# Altium footprint library Lib1.PcbLib: 53 footprints (part 2 of 4)
Each footprint in its own frame and in the unit in brackets; x right, y up, seen from the top. Pads: shape width x height; smd on the part's side, far side on the other; paste and mask are expansions set on the pad; w line width, h text height; cw(c..) or ccw(c..) is an arc to the next point about the centre after c.
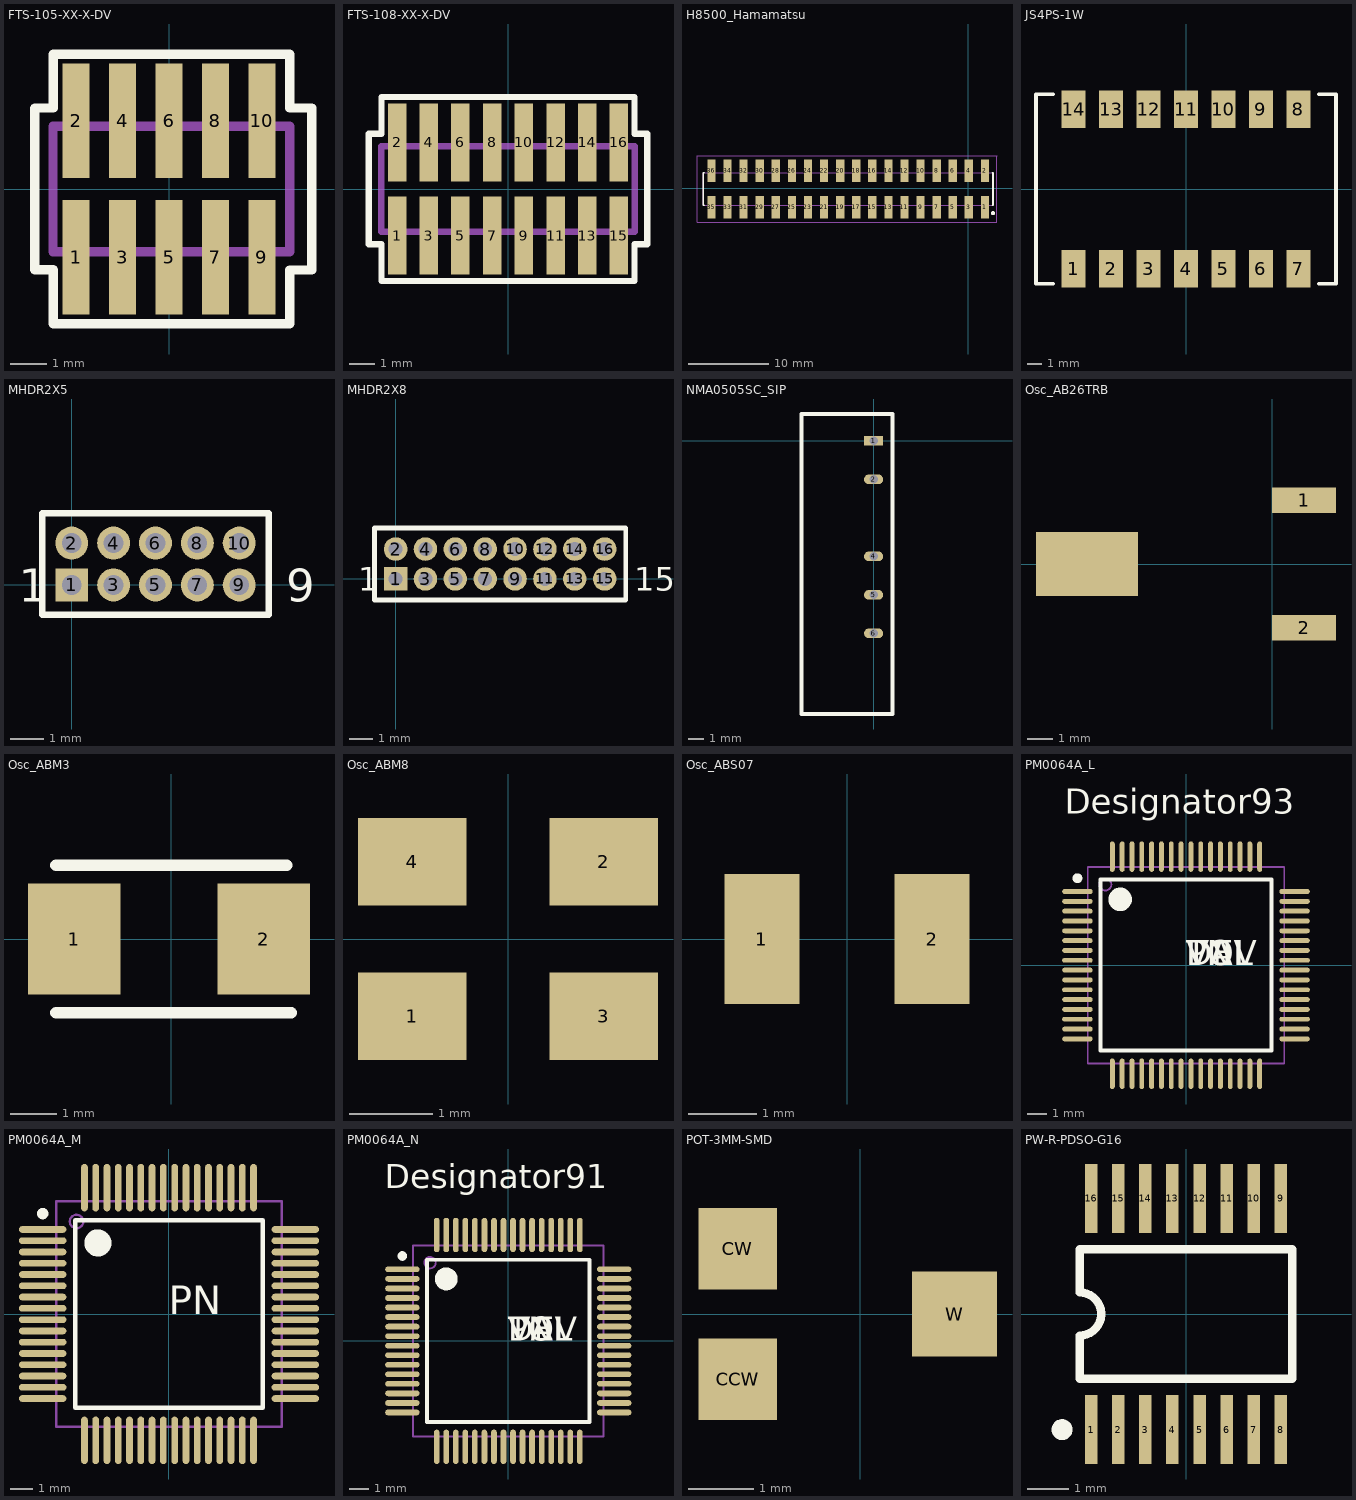
[diagram p1: the footprints below, top view; thin cyan lines are the x and y axes]

## FTS-105-XX-X-DV [mm]
pads (10):
  rect 0.74x3.125 smd mask+0.05: 1(-2.54,-1.867) 2(-2.54,1.867) 3(-1.27,-1.867) 4(-1.27,1.867) 5(0,-1.867) 6(0,1.867) 7(1.27,-1.867) 8(1.27,1.867) 9(2.54,-1.867) 10(2.54,1.867)
Top Overlay:
  lines w0.254: -3.675,-2.21 -3.164,-2.21 -3.164,-3.684 3.305,-3.684 3.305,-2.215 3.905,-2.215 3.905,2.215 3.305,2.215 3.305,3.684 -3.164,3.684 -3.164,2.215 -3.675,2.21 -3.675,-2.21
Mechanical 1:
  lines w0.254: -2.54,-2.92 -2.54,-1.715 ; -2.54,1.715 -2.54,2.92 ; -1.27,-2.92 -1.27,-1.715 ; -1.27,1.715 -1.27,2.92 ; 0,-2.92 0,-1.715 ; 0,1.715 0,2.92 ; 1.27,-2.92 1.27,-1.715 ; 1.27,1.715 1.27,2.92 ; 2.54,-2.92 2.54,-1.715 ; 2.54,1.715 2.54,2.92 ; -3.175,-1.715 3.305,-1.715 3.305,1.715 -3.175,1.715 -3.175,-1.715
  text "J1" at -0.595,-4.8 h0.76

## FTS-108-XX-X-DV [mm]
pads (16):
  rect 0.74x3.125 smd mask+0.05: 1(-4.445,-1.867) 2(-4.445,1.867) 3(-3.175,-1.867) 4(-3.175,1.867) 5(-1.905,-1.867) 6(-1.905,1.867) 7(-0.635,-1.867) 8(-0.635,1.867) 9(0.635,-1.867) 10(0.635,1.867) 11(1.905,-1.867) 12(1.905,1.867) 13(3.175,-1.867) 14(3.175,1.867) 15(4.445,-1.867) 16(4.445,1.867)
Top Overlay:
  lines w0.254: -5.58,-2.21 -5.58,2.21 -5.069,2.215 -5.069,3.684 5.069,3.684 5.069,2.215 5.58,2.215 5.58,-2.215 5.069,-2.215 5.069,-3.684 -5.069,-3.684 -5.069,-2.21 -5.58,-2.21
Mechanical 1:
  lines w0.254: -4.445,-2.92 -4.445,-1.715 ; -4.445,1.715 -4.445,2.92 ; -3.175,-2.92 -3.175,-1.715 ; -3.175,1.715 -3.175,2.92 ; -1.905,-2.92 -1.905,-1.715 ; -1.905,1.715 -1.905,2.92 ; -0.635,-2.92 -0.635,-1.715 ; -0.635,1.715 -0.635,2.92 ; 0.635,-2.92 0.635,-1.715 ; 0.635,1.715 0.635,2.92 ; 1.905,-2.92 1.905,-1.715 ; 1.905,1.715 1.905,2.92 ; 3.175,-2.92 3.175,-1.715 ; 3.175,1.715 3.175,2.92 ; 4.445,-2.92 4.445,-1.715 ; 4.445,1.715 4.445,2.92 ; -5.08,-1.715 -5.08,1.715 5.08,1.715 5.08,-1.715 -5.08,-1.715
  text "J1" at 0.232,-5.055 h0.76

## H8500_Hamamatsu [mm]
pads (36):
  rect 1.02x2.77 smd: 1(2.097,-2.384) 2(2.097,2.166) 3(0.097,-2.384) 4(0.097,2.166) 5(-1.903,-2.384) 6(-1.903,2.166) 7(-3.903,-2.384) 8(-3.903,2.166) 9(-5.903,-2.384) 10(-5.903,2.166) 11(-7.903,-2.384) 12(-7.903,2.166) 13(-9.903,-2.384) 14(-9.903,2.166) 15(-11.903,-2.384) 16(-11.903,2.166) 17(-13.903,-2.384) 18(-13.903,2.166) 19(-15.903,-2.384) 20(-15.903,2.166) 21(-17.903,-2.384) 22(-17.903,2.166) 23(-19.903,-2.384) 24(-19.903,2.166) 25(-21.903,-2.384) 26(-21.903,2.166) 27(-23.903,-2.384) 28(-23.903,2.166) 29(-25.903,-2.384) 30(-25.903,2.166) 31(-27.903,-2.384) 32(-27.903,2.166) 33(-29.903,-2.384) 34(-29.903,2.166) 35(-31.903,-2.384) 36(-31.903,2.166)
Top Overlay:
  circle w0.25: c3.097,-3.109 r0.125
  lines w0.2: -32.815,-2.109 -32.905,-2.109 -32.905,-1.109 -32.905,0.891 -32.905,1.891 -32.815,1.891 ; 3.007,-2.109 3.097,-2.109 3.097,1.891 3.007,1.891
Mechanical 13:
  lines w0.1: -32.938,-2.109 3.097,-2.109 3.097,1.923 -32.938,1.923 -32.938,-2.109
Mechanical 15:
  lines w0.1: -33.7,-4.269 3.597,-4.269 3.597,4.051 -33.7,4.051 -33.7,-4.269
3D body: height 3.56, standoff 0, extent -32.938,-2.141 3.097,1.923

## JS4PS-1W [mm]
pads (14):
  rect 1.65x2.54 smd: 1(-7.62,-5.4) 2(-5.08,-5.4) 3(-2.54,-5.4) 4(0,-5.4) 5(2.54,-5.4) 6(5.08,-5.4) 7(7.62,-5.4) 8(7.62,5.4) 9(5.08,5.4) 10(2.54,5.4) 11(0,5.4) 12(-2.54,5.4) 13(-5.08,5.4) 14(-7.62,5.4)
Top Overlay:
  lines w0.254: -9,-6.415 -10.16,-6.415 -10.16,6.415 -9,6.415 ; 9,-6.415 10.16,-6.415 10.16,6.416 9,6.416

## MHDR2X5 [mm] "Connector; Header; 5x2 Position"
pads (10):
  rect 1x1 hole 0.6: 1(0,0)
  round 1 hole 0.6: 2(0,1.27) 3(1.27,0) 4(1.27,1.27) 5(2.54,0) 6(2.54,1.27) 7(3.81,0) 8(3.81,1.27) 9(5.08,0) 10(5.08,1.27)
Top Overlay:
  lines w0.2: -0.9,-0.9 5.98,-0.9 5.98,2.17 -0.9,2.17 -0.9,-0.9
  text "1" at -1.6,-0.508 h1
  text "9" at 6.5,-0.508 h1

## MHDR2X8 [mm] "Connector; Header; 8x2 Position"
pads (16):
  rect 1x1 hole 0.6: 1(0,0)
  round 1 hole 0.6: 2(0,1.27) 3(1.27,0) 4(1.27,1.27) 5(2.54,0) 6(2.54,1.27) 7(3.81,0) 8(3.81,1.27) 9(5.08,0) 10(5.08,1.27) 11(6.35,0) 12(6.35,1.27) 13(7.62,0) 14(7.62,1.27) 15(8.89,0) 16(8.89,1.27)
Top Overlay:
  lines w0.2: -0.9,-0.9 9.79,-0.9 9.79,2.17 -0.9,2.17 -0.9,-0.9
  text "1" at -1.6,-0.508 h1
  text "15" at 10.16,-0.508 h1

## NMA0505SC_SIP [mil]
pads (5):
  rect 50x25 hole 22: 1(0,0)
  oval 50x25 hole 22: 2(0,-100) 4(0,-300) 5(0,-400) 6(0,-500)
Top Overlay:
  lines w10: -187.5,-709.65 -187.5,69.88 49.45,69.88 49.45,-709.65 -187.5,-709.65

## Osc_AB26TRB [mm]
pads (3):
  rect 2.5x1 smd: 1(1.25,2.5) 2(1.25,-2.5)
  rect 4x2.5 smd: ""(-7.25,0)

## Osc_ABM3 [mm]
pads (2):
  rect 2x2.4 smd: 1(-2.1,0) 2(2,0)
Top Overlay:
  lines w0.254: -2.5,-1.6 2.6,-1.6 ; -2.5,1.6 2.5,1.6

## Osc_ABM8 [mm]
pads (4):
  rect 1.3x1.05 smd: 1(-1.15,-0.925) 2(1.15,0.925) 3(1.15,-0.925) 4(-1.15,0.925)

## Osc_ABS07 [mm]
pads (2):
  rect 1.1x1.9 smd: 1(-1.25,0) 2(1.25,0)

## PM0064A_L [mm]
pads (64):
  oval 1.55x0.25 smd paste-0.102 mask+0.051: 1(-5.525,3.75) 2(-5.525,3.25) 3(-5.525,2.75) 4(-5.525,2.25) 5(-5.525,1.75) 6(-5.525,1.25) 7(-5.525,0.75) 8(-5.525,0.25) 9(-5.525,-0.25) 10(-5.525,-0.75) 11(-5.525,-1.25) 12(-5.525,-1.75) 13(-5.525,-2.25) 14(-5.525,-2.75) 15(-5.525,-3.25) 16(-5.525,-3.75) 33(5.525,-3.75) 34(5.525,-3.25) 35(5.525,-2.75) 36(5.525,-2.25) 37(5.525,-1.75) 38(5.525,-1.25) 39(5.525,-0.75) 40(5.525,-0.25) 41(5.525,0.25) 42(5.525,0.75) 43(5.525,1.25) 44(5.525,1.75) 45(5.525,2.25) 46(5.525,2.75) 47(5.525,3.25) 48(5.525,3.75)
  oval 0.25x1.55 smd paste-0.102 mask+0.051: 17(-3.75,-5.525) 18(-3.25,-5.525) 19(-2.75,-5.525) 20(-2.25,-5.525) 21(-1.75,-5.525) 22(-1.25,-5.525) 23(-0.75,-5.525) 24(-0.25,-5.525) 25(0.25,-5.525) 26(0.75,-5.525) 27(1.25,-5.525) 28(1.75,-5.525) 29(2.25,-5.525) 30(2.75,-5.525) 31(3.25,-5.525) 32(3.75,-5.525) 49(3.75,5.525) 50(3.25,5.525) 51(2.75,5.525) 52(2.25,5.525) 53(1.75,5.525) 54(1.25,5.525) 55(0.75,5.525) 56(0.25,5.525) 57(-0.25,5.525) 58(-0.75,5.525) 59(-1.25,5.525) 60(-1.75,5.525) 61(-2.25,5.525) 62(-2.75,5.525) 63(-3.25,5.525) 64(-3.75,5.525)
Top Overlay:
  circle w0.6: c-3.35,3.35 r0.3
  circle w0.25: c-5.525,4.425 r0.125
  lines w0.2: -4.35,-4.35 4.35,-4.35 4.35,4.35 -4.35,4.35 -4.35,-4.35
  text "DEV" at 0,0 h1.27
  text "PN" at 0,0 h1.27
  text "VAL" at 0,0 h1.27
  text "TOL" at 0,0 h1.27
  text "Designator93" at -6.172,7.696 h1.27
Mechanical 1:
  circle w0.1: c-4.1,4.1 r0.3
  lines w0.1: -5,-5 5,-5 5,5 -5,5 -5,-5
  text ".Designator" at -1.854,-0.508 h1.27

## PM0064A_M [mm]
pads (64):
  oval 2.1x0.3 smd paste-0.102 mask+0.051: 1(-5.6,3.75) 2(-5.6,3.25) 3(-5.6,2.75) 4(-5.6,2.25) 5(-5.6,1.75) 6(-5.6,1.25) 7(-5.6,0.75) 8(-5.6,0.25) 9(-5.6,-0.25) 10(-5.6,-0.75) 11(-5.6,-1.25) 12(-5.6,-1.75) 13(-5.6,-2.25) 14(-5.6,-2.75) 15(-5.6,-3.25) 16(-5.6,-3.75) 33(5.6,-3.75) 34(5.6,-3.25) 35(5.6,-2.75) 36(5.6,-2.25) 37(5.6,-1.75) 38(5.6,-1.25) 39(5.6,-0.75) 40(5.6,-0.25) 41(5.6,0.25) 42(5.6,0.75) 43(5.6,1.25) 44(5.6,1.75) 45(5.6,2.25) 46(5.6,2.75) 47(5.6,3.25) 48(5.6,3.75)
  oval 0.3x2.1 smd paste-0.102 mask+0.051: 17(-3.75,-5.6) 18(-3.25,-5.6) 19(-2.75,-5.6) 20(-2.25,-5.6) 21(-1.75,-5.6) 22(-1.25,-5.6) 23(-0.75,-5.6) 24(-0.25,-5.6) 25(0.25,-5.6) 26(0.75,-5.6) 27(1.25,-5.6) 28(1.75,-5.6) 29(2.25,-5.6) 30(2.75,-5.6) 31(3.25,-5.6) 32(3.75,-5.6) 49(3.75,5.6) 50(3.25,5.6) 51(2.75,5.6) 52(2.25,5.6) 53(1.75,5.6) 54(1.25,5.6) 55(0.75,5.6) 56(0.25,5.6) 57(-0.25,5.6) 58(-0.75,5.6) 59(-1.25,5.6) 60(-1.75,5.6) 61(-2.25,5.6) 62(-2.75,5.6) 63(-3.25,5.6) 64(-3.75,5.6)
Top Overlay:
  circle w0.6: c-3.15,3.15 r0.3
  circle w0.25: c-5.6,4.45 r0.125
  lines w0.2: -4.15,-4.15 4.15,-4.15 4.15,4.15 -4.15,4.15 -4.15,-4.15
  text "PN" at 0,0 h1.27
Mechanical 1:
  circle w0.1: c-4.1,4.1 r0.3
  lines w0.1: -5,-5 5,-5 5,5 -5,5 -5,-5

## PM0064A_N [mm]
pads (64):
  oval 1.8x0.3 smd paste-0.102 mask+0.051: 1(-5.55,3.75) 2(-5.55,3.25) 3(-5.55,2.75) 4(-5.55,2.25) 5(-5.55,1.75) 6(-5.55,1.25) 7(-5.55,0.75) 8(-5.55,0.25) 9(-5.55,-0.25) 10(-5.55,-0.75) 11(-5.55,-1.25) 12(-5.55,-1.75) 13(-5.55,-2.25) 14(-5.55,-2.75) 15(-5.55,-3.25) 16(-5.55,-3.75) 33(5.55,-3.75) 34(5.55,-3.25) 35(5.55,-2.75) 36(5.55,-2.25) 37(5.55,-1.75) 38(5.55,-1.25) 39(5.55,-0.75) 40(5.55,-0.25) 41(5.55,0.25) 42(5.55,0.75) 43(5.55,1.25) 44(5.55,1.75) 45(5.55,2.25) 46(5.55,2.75) 47(5.55,3.25) 48(5.55,3.75)
  oval 0.3x1.8 smd paste-0.102 mask+0.051: 17(-3.75,-5.55) 18(-3.25,-5.55) 19(-2.75,-5.55) 20(-2.25,-5.55) 21(-1.75,-5.55) 22(-1.25,-5.55) 23(-0.75,-5.55) 24(-0.25,-5.55) 25(0.25,-5.55) 26(0.75,-5.55) 27(1.25,-5.55) 28(1.75,-5.55) 29(2.25,-5.55) 30(2.75,-5.55) 31(3.25,-5.55) 32(3.75,-5.55) 49(3.75,5.55) 50(3.25,5.55) 51(2.75,5.55) 52(2.25,5.55) 53(1.75,5.55) 54(1.25,5.55) 55(0.75,5.55) 56(0.25,5.55) 57(-0.25,5.55) 58(-0.75,5.55) 59(-1.25,5.55) 60(-1.75,5.55) 61(-2.25,5.55) 62(-2.75,5.55) 63(-3.25,5.55) 64(-3.75,5.55)
Top Overlay:
  circle w0.25: c-5.55,4.45 r0.125
  circle w0.6: c-3.25,3.25 r0.3
  lines w0.2: -4.25,-4.25 -4.25,4.25 4.25,4.25 4.25,-4.25 -4.25,-4.25
  text "DEV" at 0,0 h1.27
  text "PN" at 0,0 h1.27
  text "VAL" at 0,0 h1.27
  text "TOL" at 0,0 h1.27
  text "Designator91" at -6.477,8.001 h1.27
Mechanical 1:
  circle w0.1: c-4.1,4.1 r0.3
  lines w0.1: -5,-5 -5,5 5,5 5,-5 -5,-5
  text ".Designator" at -1.854,-0.508 h1.27

## POT-3MM-SMD [mm] "Square Trimming Potentiometer"
pads (3):
  rect 1.2x1.25 smd: CCW(-1.875,-1) CW(-1.875,1)
  rect 1.3x1.3 smd: W(1.45,0)

## PW-R-PDSO-G16 [mm]
pads (16):
  rect 0.3x1.65 smd: 1(-2.275,-2.775) 2(-1.625,-2.775) 3(-0.975,-2.775) 4(-0.325,-2.775) 5(0.325,-2.775) 6(0.975,-2.775) 7(1.625,-2.775) 8(2.275,-2.775) 9(2.275,2.775) 10(1.625,2.775) 11(0.975,2.775) 12(0.325,2.775) 13(-0.325,2.775) 14(-0.975,2.775) 15(-1.625,2.775) 16(-2.275,2.775)
Top Overlay:
  circle w0.25: c-2.975,-2.775 r0.125
  lines w0.2: -2.55,-1.55 2.55,-1.55 2.55,1.55 -2.55,1.55 -2.55,0.517 cw(c-2.55,0) -2.55,-0.517 -2.55,-1.55